# EAGLE library part IL300 (library hsk_2012)
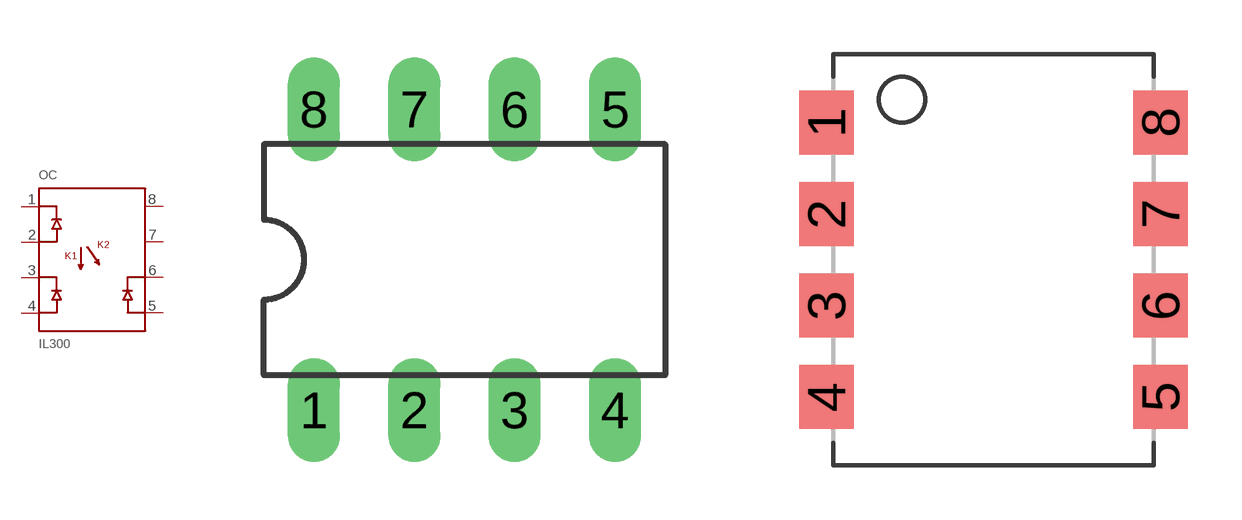
[diagram p13: symbol with the pads of DIL08; footprints DIL08, SMD-8]

Designator prefix OC

## IL300-X007-DIP  [DIL08]
1  P$1  pas
2  P$2  pas
3  P$3  pas
4  P$4  pas
5  P$5  pas
6  P$6  pas
7  P$7  nc
8  P$8  nc

## IL300-X007-SMD8  [SMD-8]
Pads as for DIL08

## Footprint DIL08 (pad centres in mm)
Dual In Line Package
drill 0.813 long: 1 -3.81,-3.81; 2 -1.27,-3.81; 3 1.27,-3.81; 4 3.81,-3.81; 5 3.81,3.81; 6 1.27,3.81; 7 -1.27,3.81; 8 -3.81,3.81

## Footprint SMD-8 (pad centres in mm)
smd 1.52 x 1.78: 1 -4.635,3.81; 2 -4.635,1.27; 3 -4.635,-1.27; 4 -4.635,-3.81; 5 4.635,-3.81; 6 4.635,-1.27; 7 4.635,1.27; 8 4.635,3.81